# Altium footprint library 智能柜控制模块.PcbLib: 27 footprints (part 1 of 2)
Each footprint in its own frame and in the unit in brackets; x right, y up, seen from the top. Pads: shape width x height; smd on the part's side, far side on the other; paste and mask are expansions set on the pad; w line width, h text height; cw(c..) or ccw(c..) is an arc to the next point about the centre after c.
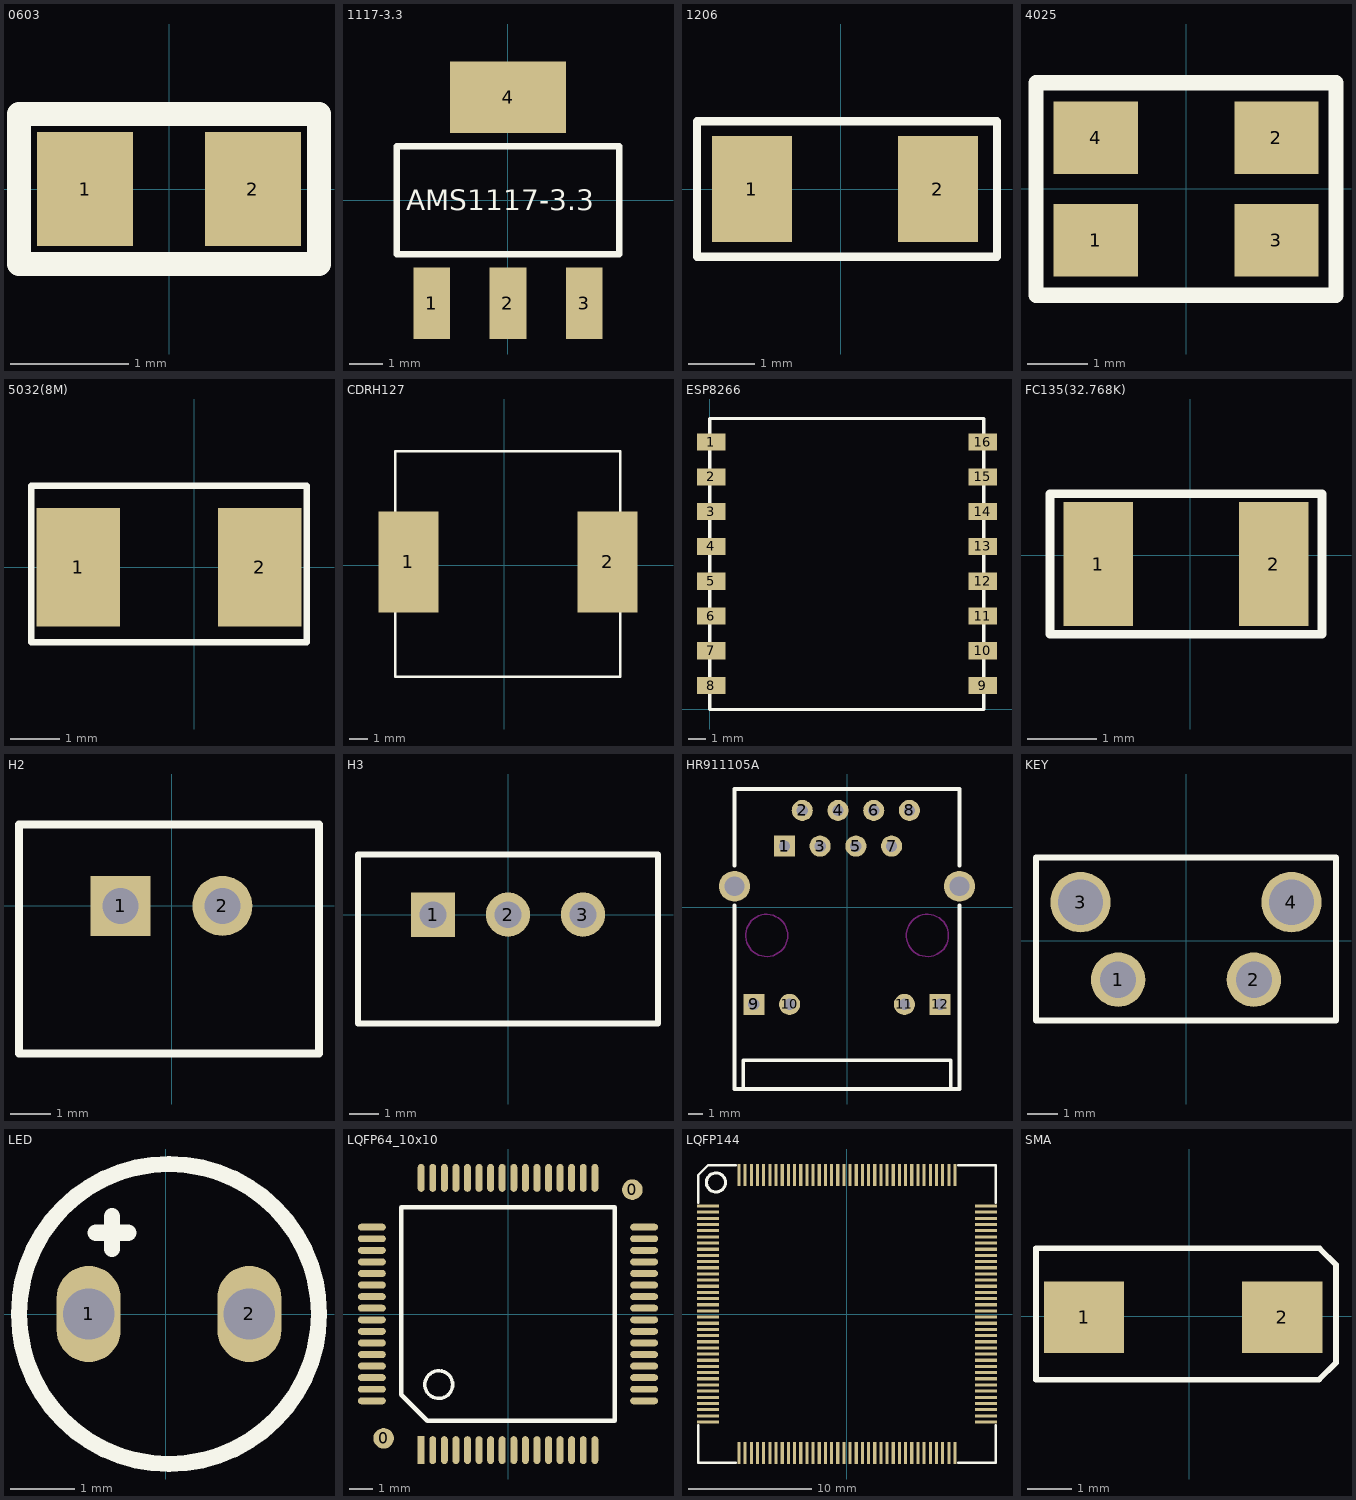
[diagram p0: the footprints below, top view; thin cyan lines are the x and y axes]

## 0603 [mil]
pads (2):
  rect 32x38 smd paste+0 mask+0: 1(-28,0) 2(28,0)
Top Overlay:
  lines w8: -50,-25 -50,25 50,25 50,-25 -50,-25
3D body: height 20, standoff 0, extent -30.56,-18.95 32.43,19.05
3D body: height 20, standoff 0, extent 32.43,-18.95 40.31,19.05
3D body: height 20, standoff 0, extent -38.43,-18.95 -30.56,19.05

## 1117-3.3 [mm]
pads (4):
  rect 1.1x2.15 smd: 1(-2.3,-3.1) 2(0,-3.1) 3(2.3,-3.1)
  rect 3.5x2.15 smd: 4(0,3.1)
Top Overlay:
  lines w0.2: -3.35,-1.625 3.35,-1.625 3.35,1.625 -3.35,1.625 -3.35,-1.625
  text "AMS1117-3.3" at -3.062,-0.306 h0.61

## 1206 [mm]
pads (2):
  rect 1.2x1.6 smd: 1(-1.333,0) 2(1.46,0)
Top Overlay:
  lines w0.127: -2.159,-1.016 2.349,-1.016 2.349,1.016 -2.159,1.016 -2.159,-1.016

## 4025 [mm]
pads (4):
  rect 1.4x1.2 smd: 1(-1.5,-0.85) 2(1.5,0.85) 3(1.5,-0.85) 4(-1.5,0.85)
Top Overlay:
  lines w0.254: -2.491,-1.766 2.488,-1.766 2.488,1.764 -2.491,1.764 -2.491,-1.766

## 5032(8M) [mm]
pads (2):
  rect 1.7x2.4 smd: 1(-2.349,0) 2(1.333,0)
Top Overlay:
  lines w0.127: -3.302,-1.524 -3.302,1.651 2.286,1.651 2.286,-1.524 -3.302,-1.524

## CDRH127 [mm]
pads (2):
  rect 3.2x5.4 smd: 1(-5.131,0.178) 2(5.537,0.178)
Top Overlay:
  lines w0.127: -5.842,-5.969 -5.842,6.096 6.223,6.096 6.223,-5.969 -5.842,-5.969

## ESP8266 [mil]
pads (16):
  rect 65x39.37 smd: 1(2.8,615) 2(2.8,535) 3(2.8,455) 4(2.8,375) 5(2.8,295) 6(2.8,215) 7(2.8,135) 8(2.8,55) 9(627.8,55) 10(627.8,135) 11(627.8,215) 12(627.8,295) 13(627.8,375) 14(627.8,455) 15(627.8,535) 16(627.8,615)
Top Overlay:
  lines w7.87: 0,0 0,669.29 629.92,669.29 629.92,0 0,0

## FC135(32.768K) [mm]
pads (2):
  rect 1x1.8 smd: 1(-1.333,-0.127) 2(1.206,-0.127)
Top Overlay:
  lines w0.127: -2.032,-1.143 1.905,-1.143 1.905,0.889 -2.032,0.889 -2.032,-1.143

## H2 [mm]
pads (2):
  rect 1.5x1.5 hole 0.9: 1(-1.27,0)
  round 1.5 hole 0.9: 2(1.27,0)
Top Overlay:
  lines w0.2: -3.81,-3.683 3.683,-3.683 3.683,2.032 -3.81,2.032 -3.81,-3.683

## H3 [mm]
pads (3):
  rect 1.5x1.5 hole 0.9: 1(-2.54,0)
  round 1.5 hole 0.9: 2(0,0) 3(2.54,0)
Top Overlay:
  lines w0.2: -5.08,-3.683 -5.08,2.032 5.08,2.032 5.08,-3.683 -5.08,-3.683

## HR911105A [mm]
pads (14):
  rect 1.5x1.5 hole 0.8: 1(-4.45,4.356) 9(-6.625,-6.896) 12(6.625,-6.896)
  round 1.5 hole 0.8: 2(-3.18,6.896) 3(-1.91,4.356) 4(-0.64,6.896) 5(0.63,4.356) 6(1.9,6.896) 7(3.17,4.356) 8(4.44,6.896) 10(-4.085,-6.896) 11(4.085,-6.896)
  round 2.2 hole 1.4: ""(-8,1.504) ""(8,1.504)
Top Overlay:
  lines w0.254: -8,0.166 -8,-12.916 8,-12.916 8,0.164 ; -8,2.958 -8,8.42 8,8.42 8,2.96 ; -7.366,-12.916 -7.366,-10.884 7.366,-10.884 7.366,-12.916
Keep-Out Layer:
  circle w0.1: c5.715,-1.996 r1.5
  circle w0.1: c-5.715,-1.996 r1.5

## KEY [mm]
pads (4):
  round 1.8 hole 1.2: 1(-2.248,-1.283) 2(2.248,-1.283)
  round 2 hole 1.5: 3(-3.492,1.283) 4(3.492,1.283)
Top Overlay:
  lines w0.2: -4.966,-2.629 -4.966,2.756 4.966,2.756 4.966,-2.629 -4.966,-2.629

## LED [mm]
pads (2):
  oval 1x1.5 hole 0.8: 1(-1.203,0) 2(1.305,0)
Top Overlay:
  circle w0.254: c0.051,0 r2.342
  lines w0.254: -1.092,1.27 -0.584,1.27 ; -0.838,1.016 -0.838,1.524

## LQFP64_10x10 [mm]
pads (66):
  round 0.889 smd: 0(-5.369,-5.369) 0(5.369,5.369)
  rect 0.3x1.2 smd: 1(-3.75,-5.877)
  oval 0.3x1.2 smd: 2(-3.25,-5.877) 3(-2.75,-5.877) 4(-2.25,-5.877) 5(-1.75,-5.877) 6(-1.25,-5.877) 7(-0.75,-5.877) 8(-0.25,-5.877) 9(0.25,-5.877) 10(0.75,-5.877) 11(1.25,-5.877) 12(1.75,-5.877) 13(2.25,-5.877) 14(2.75,-5.877) 15(3.25,-5.877) 16(3.75,-5.877) 33(3.75,5.877) 34(3.25,5.877) 35(2.75,5.877) 36(2.25,5.877) 37(1.75,5.877) 38(1.25,5.877) 39(0.75,5.877) 40(0.25,5.877) 41(-0.25,5.877) 42(-0.75,5.877) 43(-1.25,5.877) 44(-1.75,5.877) 45(-2.25,5.877) 46(-2.75,5.877) 47(-3.25,5.877) 48(-3.75,5.877)
  oval 1.2x0.3 smd: 17(5.877,-3.75) 18(5.877,-3.25) 19(5.877,-2.75) 20(5.877,-2.25) 21(5.877,-1.75) 22(5.877,-1.25) 23(5.877,-0.75) 24(5.877,-0.25) 25(5.877,0.25) 26(5.877,0.75) 27(5.877,1.25) 28(5.877,1.75) 29(5.877,2.25) 30(5.877,2.75) 31(5.877,3.25) 32(5.877,3.75) 49(-5.877,3.75) 50(-5.877,3.25) 51(-5.877,2.75) 52(-5.877,2.25) 53(-5.877,1.75) 54(-5.877,1.25) 55(-5.877,0.75) 56(-5.877,0.25) 57(-5.877,-0.25) 58(-5.877,-0.75) 59(-5.877,-1.25) 60(-5.877,-1.75) 61(-5.877,-2.25) 62(-5.877,-2.75) 63(-5.877,-3.25) 64(-5.877,-3.75)
Top Overlay:
  circle w0.152: c-2.988,-3.048 r0.6
  lines w0.2: -4.615,-3.48 -3.48,-4.615 4.615,-4.615 4.615,4.615 -4.615,4.615 -4.615,-3.48

## LQFP144 [mm]
pads (144):
  rect 1.8x0.254 smd: 1(-11.25,8.75) 2(-11.25,8.25) 3(-11.25,7.75) 4(-11.25,7.25) 5(-11.25,6.75) 6(-11.25,6.25) 7(-11.25,5.75) 8(-11.25,5.25) 9(-11.25,4.75) 10(-11.25,4.25) 11(-11.25,3.75) 12(-11.25,3.25) 13(-11.25,2.75) 14(-11.25,2.25) 15(-11.25,1.75) 16(-11.25,1.25) 17(-11.25,0.75) 18(-11.25,0.25) 19(-11.25,-0.25) 20(-11.25,-0.75) 21(-11.25,-1.25) 22(-11.25,-1.75) 23(-11.25,-2.25) 24(-11.25,-2.75) 25(-11.25,-3.25) 26(-11.25,-3.75) 27(-11.25,-4.25) 28(-11.25,-4.75) 29(-11.25,-5.25) 30(-11.25,-5.75) 31(-11.25,-6.25) 32(-11.25,-6.75) 33(-11.25,-7.25) 34(-11.25,-7.75) 35(-11.25,-8.25) 36(-11.25,-8.75) 73(11.25,-8.75) 74(11.25,-8.25) 75(11.25,-7.75) 76(11.25,-7.25) 77(11.25,-6.75) 78(11.25,-6.25) 79(11.25,-5.75) 80(11.25,-5.25) 81(11.25,-4.75) 82(11.25,-4.25) 83(11.25,-3.75) 84(11.25,-3.25) 85(11.25,-2.75) 86(11.25,-2.25) 87(11.25,-1.75) 88(11.25,-1.25) 89(11.25,-0.75) 90(11.25,-0.25) 91(11.25,0.25) 92(11.25,0.75) 93(11.25,1.25) 94(11.25,1.75) 95(11.25,2.25) 96(11.25,2.75) 97(11.25,3.25) 98(11.25,3.75) 99(11.25,4.25) 100(11.25,4.75) 101(11.25,5.25) 102(11.25,5.75) 103(11.25,6.25) 104(11.25,6.75) 105(11.25,7.25) 106(11.25,7.75) 107(11.25,8.25) 108(11.25,8.75)
  rect 0.254x1.8 smd: 37(-8.75,-11.25) 38(-8.25,-11.25) 39(-7.75,-11.25) 40(-7.25,-11.25) 41(-6.75,-11.25) 42(-6.25,-11.25) 43(-5.75,-11.25) 44(-5.25,-11.25) 45(-4.75,-11.25) 46(-4.25,-11.25) 47(-3.75,-11.25) 48(-3.25,-11.25) 49(-2.75,-11.25) 50(-2.25,-11.25) 51(-1.75,-11.25) 52(-1.25,-11.25) 53(-0.75,-11.25) 54(-0.25,-11.25) 55(0.25,-11.25) 56(0.75,-11.25) 57(1.25,-11.25) 58(1.75,-11.25) 59(2.25,-11.25) 60(2.75,-11.25) 61(3.25,-11.25) 62(3.75,-11.25) 63(4.25,-11.25) 64(4.75,-11.25) 65(5.25,-11.25) 66(5.75,-11.25) 67(6.25,-11.25) 68(6.75,-11.25) 69(7.25,-11.25) 70(7.75,-11.25) 71(8.25,-11.25) 72(8.75,-11.25) 109(8.75,11.25) 110(8.25,11.25) 111(7.75,11.25) 112(7.25,11.25) 113(6.75,11.25) 114(6.25,11.25) 115(5.75,11.25) 116(5.25,11.25) 117(4.75,11.25) 118(4.25,11.25) 119(3.75,11.25) 120(3.25,11.25) 121(2.75,11.25) 122(2.25,11.25) 123(1.75,11.25) 124(1.25,11.25) 125(0.75,11.25) 126(0.25,11.25) 127(-0.25,11.25) 128(-0.75,11.25) 129(-1.25,11.25) 130(-1.75,11.25) 131(-2.25,11.25) 132(-2.75,11.25) 133(-3.25,11.25) 134(-3.75,11.25) 135(-4.25,11.25) 136(-4.75,11.25) 137(-5.25,11.25) 138(-5.75,11.25) 139(-6.25,11.25) 140(-6.75,11.25) 141(-7.25,11.25) 142(-7.75,11.25) 143(-8.25,11.25) 144(-8.75,11.25)
Top Overlay:
  circle w0.254: c-10.616,10.654 r0.773
  lines w0.2: -12.05,-9 -12.05,-12.05 -9,-12.05 ; -12.05,9 -12.05,11.25 -11.25,12.05 -9,12.05 ; 9,-12.05 12.05,-12.05 12.05,-9 ; 9,12.05 12.05,12.05 12.05,9

## SMA [mm]
pads (2):
  rect 1.8x1.6 smd: 1(-2.362,-0.025) 2(2.083,-0.025)
Top Overlay:
  lines w0.127: -3.442,-1.422 -3.442,1.524 2.921,1.524 3.289,1.156 3.289,-1.041 2.908,-1.422 -3.442,-1.422